# Altium footprint library TSSOP-20.PcbLib: 1 footprints
Each footprint in its own frame and in the unit in brackets; x right, y up, seen from the top. Pads: shape width x height; smd on the part's side, far side on the other; paste and mask are expansions set on the pad; w line width, h text height; cw(c..) or ccw(c..) is an arc to the next point about the centre after c.
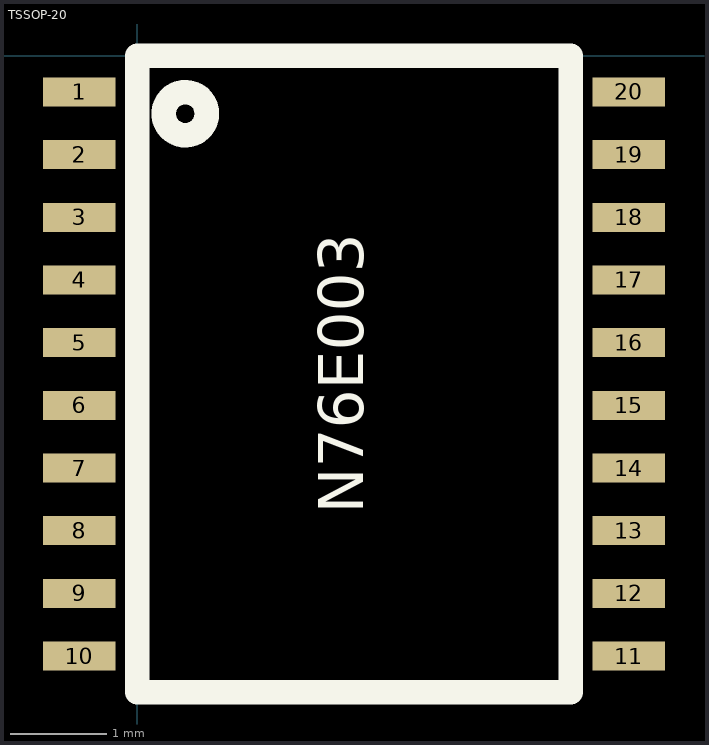
[diagram p0: the footprint, top view; thin cyan lines are the x and y axes]

## TSSOP-20 [mm]
height 1.2
pads (20):
  rect 0.75x0.3 smd: 1(-0.6,-0.375) 2(-0.6,-1.025) 3(-0.6,-1.675) 4(-0.6,-2.325) 5(-0.6,-2.975) 6(-0.6,-3.625) 7(-0.6,-4.275) 8(-0.6,-4.925) 9(-0.6,-5.575) 10(-0.6,-6.225) 11(5.1,-6.225) 12(5.1,-5.575) 13(5.1,-4.925) 14(5.1,-4.275) 15(5.1,-3.625) 16(5.1,-2.975) 17(5.1,-2.325) 18(5.1,-1.675) 19(5.1,-1.025) 20(5.1,-0.375)
Top Overlay:
  circle w0.254: c0.5,-0.6 r0.224
  lines w0.254: 0,-6.6 4.5,-6.6 4.5,0 0,0 0,-6.6
  text "N76E003" at 2.502,-4.747 h0.8
3D body "User Library-tssop-20-1.step": height 1.2, standoff 0, extent -1.05,-6.6 5.55,0